# Altium schematic symbol library Connectors.SchLib: 4 symbols
Pins are listed as number, name and electrical type; pins without a type are passive.

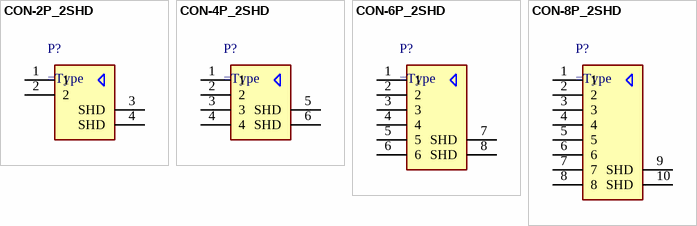
[diagram p0: symbols CON-2P_2SHD to CON-8P_2SHD]

## CON-2P_2SHD
designator P?
pins: 1, 2, 3 SHD, 4 SHD

## CON-4P_2SHD
designator P?
pins: 1, 2, 3, 4, 5 SHD, 6 SHD

## CON-6P_2SHD
designator P?
pins: 1, 2, 3, 4, 5, 6, 7 SHD, 8 SHD

## CON-8P_2SHD
designator P?
pins: 1, 2, 3, 4, 5, 6, 7, 8, 9 SHD, 10 SHD